# EAGLE library part HEADER_POS11_? (library GTOR - Microfit Connector)
Molex - Micro-Fit 3.0 Series connector, 3.00mm (0.118") pitch header, 11 positions.
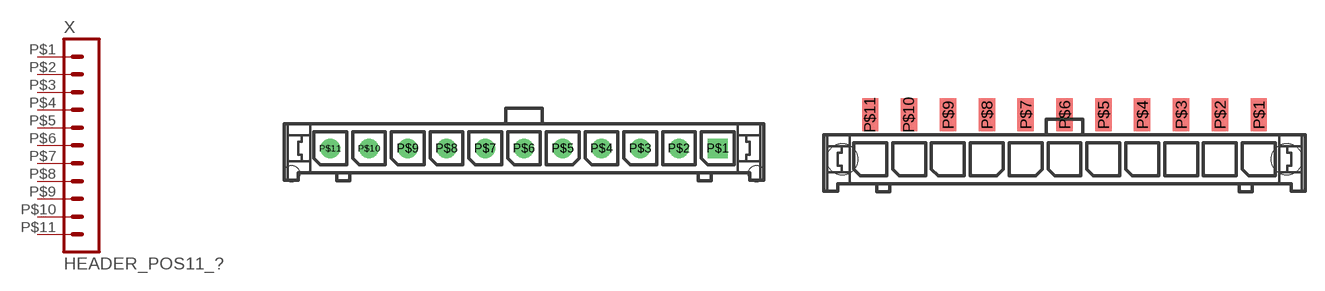
[diagram p8: symbol with the pads of 43650-1115; footprints 43650-1115, 43650-1121]

Designator prefix X

## HEADER_POS11_43650-1115  [43650-1115]
P$1  1  pas
P$2  2  pas
P$3  3  pas
P$4  4  pas
P$5  5  pas
P$6  6  pas
P$7  7  pas
P$8  8  pas
P$9  9  pas
P$10  10  pas
P$11  11  pas

## HEADER_POS11_43650-1121  [43650-1121]
Pads as for 43650-1115

## HEADER_POS11_43650-1124  [43650-1124]
Pads as for 43650-1115

## HEADER_POS11_43650-1100  [43650-1100]
Pads as for 43650-1115

## HEADER_POS11_43650-1109  [43650-1109]
P$1  2  pas
P$2  1  pas
P$3  3  pas
P$4  4  pas
P$5  5  pas
P$6  6  pas
P$7  7  pas
P$8  8  pas
P$9  9  pas
P$10  10  pas
P$11  11  pas

## HEADER_POS11_43650-1112  [43650-1112]
Pads as for 43650-1115

## Footprint 43650-1115 (pad centres in mm)
Molex Micro-Fit 3.0 - Header Shrouded, Thru hole, Vertical, with Pegs; P/N: SD-43650-1115, SD-43650-1116, SD-43650-1117 http://www.molex.com/pdm_docs/sd/436500215_sd.pdf
drill 1.02 square: P$1 15,0
drill 1.02: P$2 12,0; P$3 9,0; P$4 6,0; P$5 3,0; P$6 0,0; P$7 -3,0; P$8 -6,0; P$9 -9,0; P$10 -12,0; P$11 -15,0
hole 1.27 at 18,-1.96
hole 1.27 at -18,-1.96

## Footprint 43650-1121 (pad centres in mm)
Molex Micro-Fit 3.0 - Header Shrouded, Thru hole, Vertical, with Solderable Retention Clips; P/N: SD-43650-1121, SD-43650-1122, SD-43650-1123 http://www.molex.com/pdm_docs/sd/436500221_sd.pdf
smd 1.27 x 2.54: P$1 15,3.43; P$2 12,3.43; P$3 9,3.43; P$4 6,3.43; P$5 3,3.43; P$6 0,3.43; P$7 -3,3.43; P$8 -6,3.43; P$9 -9,3.43; P$10 -12,3.43; P$11 -15,3.43
hole 2.41 at 17.15,0
hole 2.41 at -17.15,0

## Footprint 43650-1124 (pad centres in mm)
Molex Micro-Fit 3.0 - Header Shrouded, Thru hole, Vertical, with Solder Tabs; P/N: SD-43650-1124, SD-43650-1125, SD-43650-1126 http://www.molex.com/pdm_docs/sd/436500224_sd.pdf
smd 1.27 x 2.54: P$1 15.036,3.503; P$2 12.036,3.503; P$3 9.036,3.503; P$4 6.036,3.503; P$5 3.036,3.503; P$6 0.036,3.503; P$7 -2.964,3.503; P$8 -5.964,3.503; P$9 -8.964,3.503; P$10 -11.964,3.503; P$11 -14.964,3.503
smd 3.43 x 1.65: TAB1 18.926,0.073; TAB2 -18.854,0.073

## Footprint 43650-1100 (pad centres in mm)
Molex Micro-Fit 3.0 - Header Shrouded, Thru hole, Right Angle, with Pegs; P/N: SD-43650-1100, SD-43650-1101, SD-43650-1102 http://www.molex.com/pdm_docs/sd/436500200_sd.pdf
drill 1.02 square: P$1 15,4.32
drill 1.02: P$2 12,4.32; P$3 9,4.32; P$4 6,4.32; P$5 3,4.32; P$6 0,4.32; P$7 -3,4.32; P$8 -6,4.32; P$9 -9,4.32; P$10 -12,4.32; P$11 -15,4.32
hole 3 at 12.85,0
hole 3 at -12.85,0

## Footprint 43650-1109 (pad centres in mm)
Molex Micro-Fit 3.0 - Header Shrouded, Thru hole, Right Angle, with Solderable Retention Clips; P/N: SD-43650-1109, SD-43650-1110, SD-43650-1111 http://www.molex.com/pdm_docs/sd/436500209_sd.pdf
smd 1.27 x 2.92: P$1 15,5.48; P$2 12,5.48; P$3 9,5.48; P$4 6,5.48; P$5 3,5.48; P$6 0,5.48; P$7 -3,5.48; P$8 -6,5.48; P$9 -9,5.48; P$10 -12,5.48; P$11 -15,5.48
hole 2.41 at 17.15,0
hole 2.41 at -17.15,0

## Footprint 43650-1112 (pad centres in mm)
Molex Micro-Fit 3.0 - Header Shrouded, Surface mount, Right Angle, with Solderable tabs; P/N: SD-43650-1112, SD-43650-1113, SD-43650-1114 http://www.molex.com/pdm_docs/sd/436500212_sd.pdf
smd 1.27 x 2.92: P$1 15,5.48; P$2 12,5.48; P$3 9,5.48; P$4 6,5.48; P$5 3,5.48; P$6 0,5.48; P$7 -3,5.48; P$8 -6,5.48; P$9 -9,5.48; P$10 -12,5.48; P$11 -15,5.48
smd 3.43 x 1.65: TAB1 18.88,0; TAB2 -18.88,0